# EAGLE library part DPDT_ON-ON_LG (library modular_robot_parts)
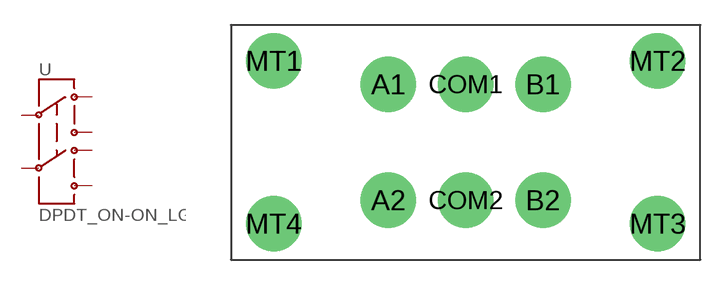
[diagram p5: symbol with the pads of SW_GPI-152-3013; footprint SW_GPI-152-3013]

Designator prefix -

## DPDT_ON-ON_LG  [SW_GPI-152-3013]
A1  A1
A2  A2
B1  B1
B2  B2
COM1  COM1
COM2  COM2

## Footprint SW_GPI-152-3013 (pad centres in mm)
drill 1.778 pad 3.302 round: A1 -4.597,3.454; A2 -4.597,-3.454; B1 4.597,3.454; B2 4.597,-3.454; COM1 0,3.454; COM2 0,-3.454; MT1 -11.43,4.851; MT2 11.43,4.851; MT3 11.43,-4.851; MT4 -11.43,-4.851